# EAGLE library part LM3405 (library PCB_KioskMB_r3.3-05)
IC LED DRVR HP CONST TSOT23-6
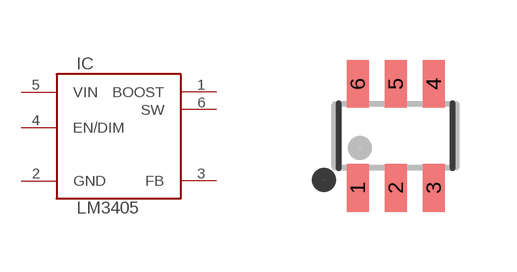
[diagram p25: symbol with the pads of SOT23-6; footprint SOT23-6]

Designator prefix IC

## LM3405AXMK/NOPB  [SOT23-6]
1  BOOST  in
2  GND  pwr
3  FB  in
4  EN/DIM  in
5  VIN  pwr
6  SW  out

## Footprint SOT23-6 (pad centres in mm)
smd 0.55 x 1.2: 1 -0.95,-1.3; 2 0,-1.3; 3 0.95,-1.3; 4 0.95,1.3; 5 0,1.3; 6 -0.95,1.3